# EAGLE library part S-8261 (library iridia)
SII S-8261 Series The S-8261 series are lithium-ion / lithium polymer rechargeable battery protection ICs incorporating high-accuracy voltage detection circuit and delay circuit. The S-8261 series are suitable for protection of single-cell lithium ion/lithium polymer battery packs from overcharge, overdischarge and overcurrent.
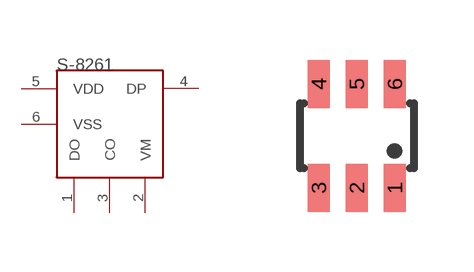
[diagram p0: symbol with the pads of S-8261; footprint S-8261]

Designator prefix -

## S-8261  [S-8261]
1  DO
2  VM
3  CO
4  DP
5  VDD
6  VSS

## Footprint S-8261 (pad centres in mm)
smd 0.55 x 1.2: 1 -0.32,-1.3; 2 -1.27,-1.3; 3 -2.22,-1.3; 4 -2.22,1.3; 5 -1.27,1.3; 6 -0.32,1.3